# EAGLE library part EC-45-FLAT (library EC-45-flat)
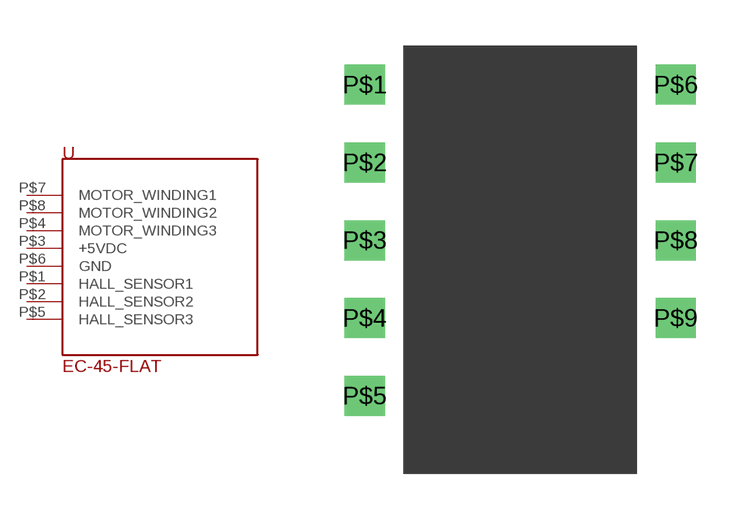
[diagram p0: symbol with the pads of EC-45-FLAT; footprint EC-45-FLAT]

Designator prefix -

## EC-45-FLAT  [EC-45-FLAT]
P$1  HALL_SENSOR1
P$2  HALL_SENSOR2
P$3  +5VDC
P$4  MOTOR_WINDING3
P$5  HALL_SENSOR3
P$6  GND
P$7  MOTOR_WINDING1
P$8  MOTOR_WINDING2

## Footprint EC-45-FLAT (pad centres in mm)
drill 0.8 square: P$1 -1.27,3.81; P$2 -1.27,1.27; P$3 -1.27,-1.27; P$4 -1.27,-3.81; P$5 -1.27,-6.35; P$6 8.89,3.81; P$7 8.89,1.27; P$8 8.89,-1.27; P$9 8.89,-3.81